# Altium footprint library Udemy_Library.PcbLib: 35 footprints (part 1 of 3)
Each footprint in its own frame and in the unit in brackets; x right, y up, seen from the top. Pads: shape width x height; smd on the part's side, far side on the other; paste and mask are expansions set on the pad; w line width, h text height; cw(c..) or ccw(c..) is an arc to the next point about the centre after c.
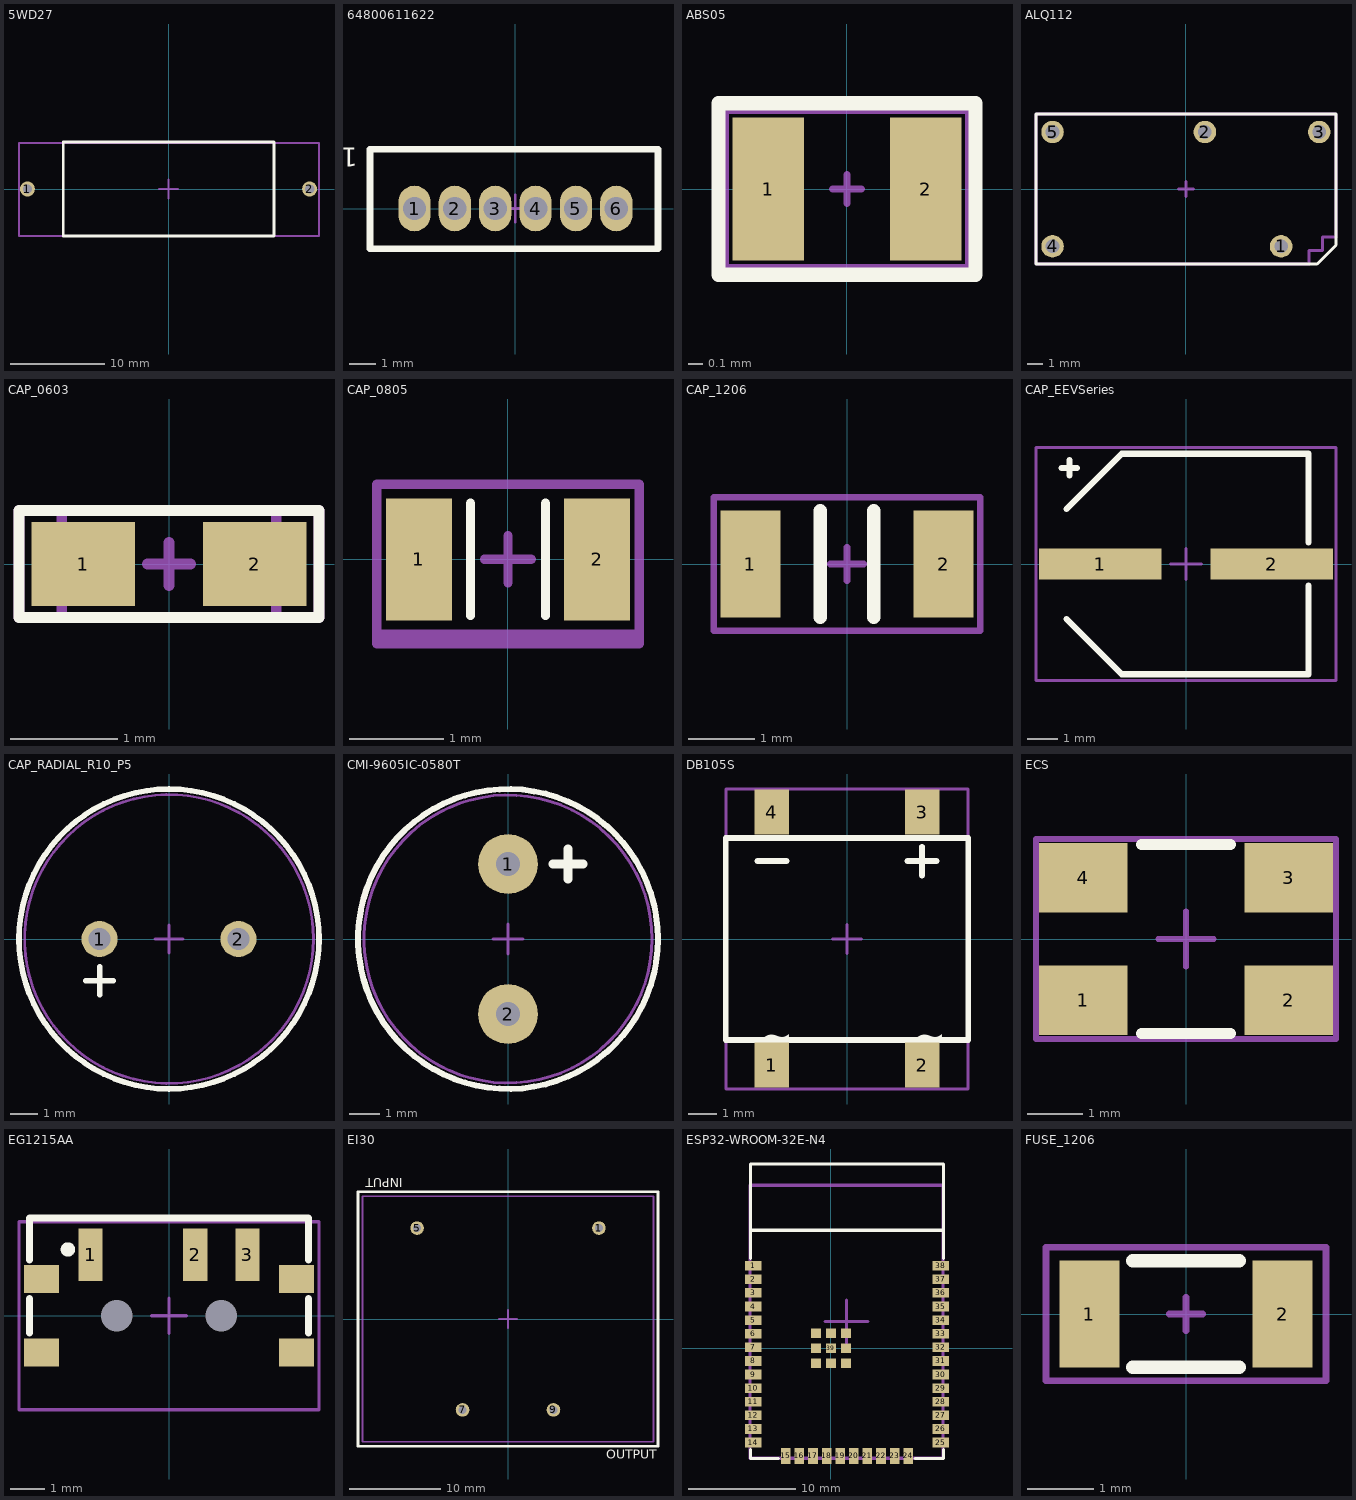
[diagram p0: the footprints below, top view; thin cyan lines are the x and y axes]

## 5WD27 [mm]
pads (2):
  round 1.6 hole 1 mask+0.05: 1(-15,0) 2(15,0)
Top Overlay:
  lines w0.3: -11.2,-5 -11.2,5 11.2,5 11.2,-5 -11.2,-5
Top Component Center:
  lines w0.2: -1,0 1,0 ; 0,-1 0,1 ; -15.9,-5 -15.9,4.9 -9.2,4.9 16,4.9 16,-5 -15.9,-5
Top Designator:
  lines w0.2: -15.9,-5 16,-5 16,4.9 -9.2,4.9 -15.9,4.9 -15.9,-5
  text ".Designator" at -2.55,-0.45 h1.2
3D body: height 5.2, standoff 4.4, extent 6.2,-0.4 15.2,0.4
3D body: height 5, standoff -4, extent 14.6,-0.4 15.4,0.4
3D body: height 5.2, standoff 4.4, extent -15.2,-0.4 -6.2,0.4
3D body: height 9.65, standoff 0, extent -11,-4.825 11,4.825
3D body: height 5, standoff -4, extent -15.4,-0.4 -14.6,0.4

## 64800611622 [mm]
pads (6):
  oval 1.2x1.7 hole 0.87 mask+0.05: 1(-3.75,0) 2(-2.25,0) 3(-0.75,0) 4(0.75,0) 5(2.25,0) 6(3.75,0)
Top Overlay:
  lines w0.25: -5.4,-1.5 -5.4,2.2 5.3,2.2 5.3,-1.5 -5.4,-1.5
  text "1" at -5.85,2.25 h0.7
Top Component Center:
  lines w0.1: -0.5,0 0.5,0 ; 0,-0.5 0,0.5 ; -5.4,-1.5 5.3,-1.5 5.3,2.2 -5.4,2.2 -5.4,-1.5
Top Designator:
  lines w0.1: -5.4,-1.5 5.3,-1.5 5.3,2.2 -5.4,2.2 -5.4,-1.5
  text ".Designator" at -1.4,1.267 h0.5
3D body "64800611622_rev1.stp": height 4.55, standoff -2.65, extent -5.25,-1.4 5.25,2.1

## ABS05 [mm]
pads (2):
  rect 0.5x1 smd mask+0.05: 1(-0.55,0) 2(0.55,0)
Top Overlay:
  lines w0.1: -0.9,-0.6 -0.9,0.6 0.9,0.6 0.9,-0.6 -0.9,-0.6
Top Component Center:
  lines w0.05: -0.1,0 0.1,0 ; 0,-0.1 0,0.1 ; -0.85,-0.55 0.85,-0.55 0.85,0.55 -0.85,0.55 -0.85,-0.55
Top Designator:
  lines w0.05: -0.85,-0.55 0.85,-0.55 0.85,0.55 -0.85,0.55 -0.85,-0.55
  text ".Designator" at -0.35,-0.083 h0.2
3D body "ABS05-32.768KHZ-T.step": height 0.5, standoff 0, extent -0.8,-0.5 0.8,0.5

## ALQ112 [mm]
pads (5):
  round 1.5 hole 0.9 mask+0.05: 1(6.35,-3.81) 2(1.27,3.81) 3(8.89,3.81) 4(-8.89,-3.81) 5(-8.89,3.81)
Top Overlay:
  lines w0.2: -9.99,-4.99 8.21,-4.99 8.76,-4.99 10.01,-3.74 10.01,-3.19 10.01,5.01 -9.99,5.01 -9.99,-4.99
Top Component Center:
  lines w0.2: -0.5,0 0.5,0 ; 0,-0.5 0,0.5 ; -9.99,-4.99 8.21,-4.99 8.21,-4.09 9.11,-4.09 9.11,-3.19 10.01,-3.19 10.01,5.01 -9.99,5.01 -9.99,-4.99
Top Designator:
  lines w0.2: -9.99,-4.99 8.21,-4.99 8.21,-4.09 9.11,-4.09 9.11,-3.19 10.01,-3.19 10.01,5.01 -9.99,5.01 -9.99,-4.99
  text ".Designator" at -2.8,-0.367 h1
3D body: height 4.2, standoff -3.75, extent 6.2,-4.21 6.5,-3.41
3D body: height 4.2, standoff -3.75, extent 8.74,3.41 9.04,4.21
3D body: height 4.2, standoff -3.75, extent 1.12,3.41 1.42,4.21
3D body: height 0.45, standoff -3.75, extent -9.29,-4.21 -8.49,-3.41
3D body: height 0.45, standoff -3.75, extent -9.29,3.41 -8.49,4.21
3D body: height 15.6, standoff 0.4, extent -10,-5 10,5

## CAP_0603 [mil]
pads (2):
  rect 38x31 smd mask+1.97: 1(-31.5,0) 2(31.5,0)
Top Overlay:
  lines w3.94: -55.12,-19.68 -55.12,19.68 55.12,19.68 55.12,-19.68 -55.12,-19.68
Top 3D Body:
  lines w3.94: -39.37,-19.68 39.37,-19.68 39.37,19.68 -39.37,19.68 -39.37,-19.68
Top Component Center:
  lines w3.94: -7.87,0 7.87,0 ; 0,-7.87 0,7.87 ; -55.12,-19.68 -55.12,19.68 55.12,19.68 55.12,-19.68 -55.12,-19.68
Top Designator:
  lines w3.94: -55.12,-19.68 -55.12,19.68 55.12,19.68 55.12,-19.68 -55.12,-19.68
  text ".Designator" at -31.5,-6.56 h15.75
3D body "CAPC0603.STEP": height 31.5, standoff 0, extent -41.35,-20.82 41.35,19.68

## CAP_0805 [mm]
pads (2):
  rect 0.7x1.3 smd mask+0.05: 1(-0.95,0) 2(0.95,0)
Top Overlay:
  lines w0.1: -0.4,-0.6 -0.4,0.6 ; 0.4,-0.6 0.4,0.6
Top Component Center:
  lines w0.1: -0.25,0 0.25,0 ; 0,-0.25 0,0.25 ; -1.4,-0.9 -1.4,0.8 1.4,0.8 1.4,-0.9 -1.4,-0.9
Top Designator:
  lines w0.1: -1.4,-0.8 1.4,-0.8 1.4,0.8 -1.4,0.8 -1.4,-0.8
  text ".Designator" at -0.85,-0.367 h0.7
3D body "CAPC0805.STEP": height 0.9, standoff 0, extent -1.301,-0.678 1.301,0.678

## CAP_1206 [mm]
pads (2):
  rect 0.9x1.6 smd mask+0.05: 1(-1.45,0) 2(1.45,0)
Top Overlay:
  lines w0.2: -0.4,-0.8 -0.4,0.8 ; 0.4,-0.8 0.4,0.8
Top Component Center:
  lines w0.1: -0.25,0 0.25,0 ; 0,-0.25 0,0.25 ; -2,-1 2,-1 2,1 -2,1 -2,-1
Top Designator:
  lines w0.1: -2,-1 2,-1 2,1 -2,1 -2,-1
  text ".Designator" at -0.65,-0.233 h0.5
3D body "CAPC1206.STEP": height 1.3, standoff -0.01, extent -1.975,-0.976 1.975,0.976

## CAP_EEVSeries [mm]
pads (2):
  rect 4x1 smd mask+0.05: 1(-2.8,0) 2(2.8,0)
Top Overlay:
  lines w0.2: -4.062,3.135 -3.562,3.135 ; -3.9,-1.8 -2.1,-3.6 4,-3.6 4,-0.7 ; -3.9,1.8 -2.1,3.6 4,3.6 4,0.7 ; -3.8,2.9 -3.8,3.4
Top Component Center:
  lines w0.1: -0.5,0 0.5,0 ; 0,-0.5 0,0.5 ; -4.9,-3.8 -4.9,3.8 4.9,3.8 4.9,-3.8 -4.9,-3.8
Top Designator:
  lines w0.1: -4.9,-3.8 4.9,-3.8 4.9,3.8 -4.9,3.8 -4.9,-3.8
  text ".Designator" at 0.467,-1.8 h1
3D body "EEV686M035A9HAA.step": height 8.01, standoff 0, extent -3.8,-3.4 3.8,3.4

## CAP_RADIAL_R10_P5 [mm]
pads (2):
  round 1.3 hole 0.8 mask+0.05: 1(-2.5,0) 2(2.5,0)
Top Overlay:
  circle w0.2: c0,0 r5.4
  lines w0.2: -3,-1.5 -2,-1.5 ; -2.5,-2 -2.5,-1
Top Component Center:
  circle w0.1: c0,0 r5.2
  lines w0.1: -0.5,0 0.5,0 ; 0,-0.5 0,0.5
Top Designator:
  circle w0.1: c0,0 r5.2
  text ".Designator" at 0.417,-2.05 h1
3D body "ESH477M050AH4AA.step": height 22.2, standoff -19.8, extent -5.25,-5.25 5.25,5.25

## CMI-9605IC-0580T [mm]
pads (2):
  round 2 hole 0.8 mask+0.05: 1(0,2.5) 2(0,-2.5)
Top Overlay:
  circle w0.2: c0,0 r5
  lines w0.3: 1.5,2.5 2.5,2.5 ; 2,2 2,3
Top Component Center:
  circle w0.1: c0,0 r4.8
  lines w0.1: -0.5,0 0.5,0 ; 0,-0.5 0,0.5
Top Designator:
  circle w0.1: c0,0 r4.8
  text ".Designator" at -1.8,-0.467 h1
3D body: height 5.2, standoff 5.15, extent -4.3,-4.3 4.3,4.3
3D body: height 0.1, standoff -3.9, extent -0.3,-2.8 0.3,-2.2
3D body: height 5.1, standoff 0.1, extent -4.8,-4.8 4.8,4.8
3D body: height 0.15, standoff -5.35, extent -0.3,2.2 0.3,2.8

## DB105S [mm]
pads (4):
  rect 1.2x1.55 smd mask+0.05: 1(-2.605,-4.37) 2(2.605,-4.37) 3(2.605,4.4) 4(-2.605,4.4)
Top Overlay:
  lines w0.2: -3.1,2.7 -2.1,2.7 ; 2.1,2.7 3.1,2.7 ; 2.6,2.2 2.6,3.2 ; -4.2,-3.5 4.2,-3.5 4.2,3.5 -4.2,3.5 -4.2,-3.5
  text "~" at -3,-3.833 h1
  text "~" at 2.3,-3.833 h1
Top Component Center:
  lines w0.1: -0.5,0 0.5,0 ; 0,-0.5 0,0.5 ; -4.2,-5.2 4.2,-5.2 4.2,5.2 -4.2,5.2 -4.2,-5.2
Top Designator:
  lines w0.1: -4.2,-5.2 4.2,-5.2 4.2,5.2 -4.2,5.2 -4.2,-5.2
  text ".Designator" at -2.3,-0.467 h1
3D body "DB107S  DB-S.step": height 2.66, standoff 0, extent -4.16,-5.2 4.16,5.2

## ECS [mm]
pads (4):
  rect 1.6x1.25 smd mask+0.05: 1(-1.85,-1.1) 2(1.85,-1.1) 3(1.85,1.1) 4(-1.85,1.1)
Top Overlay:
  lines w0.2: -0.8,-1.7 0.8,-1.7 ; -0.8,1.7 0.8,1.7
Top Component Center:
  lines w0.1: -0.5,0 0.5,0 ; 0,-0.5 0,0.5 ; -2.7,-1.8 2.7,-1.8 2.7,1.8 -2.7,1.8 -2.7,-1.8
Top Designator:
  lines w0.1: -2.7,-1.8 -2.7,1.8 2.7,1.8 2.7,-1.8 -2.7,-1.8
  text ".Designator" at -0.85,-0.317 h0.7
3D body "ECS-160-20-30B-TR.step": height 0.85, standoff 0, extent -2.5,-1.6 2.5,1.6

## EG1215AA [mm]
pads (9):
  rect 0.7x1.5 smd mask+0.05: 1(-2.25,1.75) 2(0.75,1.75) 3(2.25,1.75)
  rect 1x0.8 smd mask+0.05: ""(-3.65,-1.05) ""(-3.65,1.05) ""(3.65,-1.05) ""(3.65,1.05)
  round 0 hole 0.9 mask+0: ""(-1.5,0) ""(1.5,0)
Top Overlay:
  circle w0.21: c-2.9,1.9 r0.1
  lines w0.2: -4,-0.5 -4,0.5 ; -4,1.6 -4,2.8 4,2.8 4,1.6 ; 4,-0.5 4,0.5
Top Component Center:
  lines w0.1: -0.5,0 0.5,0 ; 0,-0.5 0,0.5 ; -4.3,-2.7 -4.3,2.7 4.3,2.7 4.3,-2.7 -4.3,-2.7
Top Designator:
  lines w0.1: -4.3,-2.7 -4.3,2.7 4.3,2.7 4.3,-2.7 -4.3,-2.7
  text ".Designator" at 0.05,-1.8 h0.75
3D body "EG1215AA.step": height 1.4, standoff -0.3, extent -3.85,-2.7 3.85,2.2

## EI30 [mm]
pads (4):
  round 1.5 hole 0.9 mask+0.05: 1(10,10) 5(-10,10) 7(-5,-10) 9(5,-10)
Top Overlay:
  lines w0.3: -16.5,-14 16.5,-14 16.5,14 -16.5,14 -16.5,-14
  text "OUTPUT" at 10.8,-15.4 h1
  text "INPUT" at -11.6,15.5 h1
Top Component Center:
  lines w0.2: -1,0 1,0 ; 0,-1 0,1 ; -16,-13.5 -16,13.5 16,13.5 16,-13.5 -16,-13.5
Top Designator:
  lines w0.2: -16,-13.5 16,-13.5 16,13.5 -16,13.5 -16,-13.5
  text ".Designator" at -2.7,-0.2 h1.5
3D body "EI30.step": height 24.02, standoff -2.99, extent -16,-13.5 16,13.5

## ESP32-WROOM-32E-N4 [mm]
pads (47):
  rect 1.5x0.9 smd mask+0.05: 1(-7.25,7.72) 2(-7.25,6.45) 3(-7.25,5.18) 4(-7.25,3.91) 5(-7.25,2.64) 6(-7.25,1.37) 7(-7.25,0.1) 8(-7.25,-1.17) 9(-7.25,-2.44) 10(-7.25,-3.71) 11(-7.25,-4.98) 12(-7.25,-6.25) 13(-7.25,-7.52) 14(-7.25,-8.79) 25(10.25,-8.79) 26(10.25,-7.52) 27(10.25,-6.25) 28(10.25,-4.98) 29(10.25,-3.71) 30(10.25,-2.44) 31(10.25,-1.17) 32(10.25,0.1) 33(10.25,1.37) 34(10.25,2.64) 35(10.25,3.91) 36(10.25,5.18) 37(10.25,6.45) 38(10.25,7.72)
  rect 0.9x1.5 smd mask+0.05: 15(-4.215,-10.04) 16(-2.945,-10.04) 17(-1.675,-10.04) 18(-0.405,-10.04) 19(0.865,-10.04) 20(2.135,-10.04) 21(3.405,-10.04) 22(4.675,-10.04) 23(5.945,-10.04) 24(7.215,-10.04)
  rect 0.9x0.9 smd mask+0.05: 39(0,0) ""(-1.4,-1.4) ""(-1.4,0) ""(-1.4,1.4) ""(0,-1.4) ""(0,1.4) ""(1.4,-1.4) ""(1.4,0) ""(1.4,1.4)
Top Overlay:
  lines w0.3: -7.5,-9.45 -7.5,-10.27 -4.9,-10.27 ; -7.5,8.38 -7.5,17.21 10.5,17.21 10.5,8.38 ; -7.5,11.02 10.5,11.02 ; 7.87,-10.29 10.5,-10.29 10.5,-9.45
Top 3D Body:
  lines w0.3: -7.56,-10.24 -7.56,15.26 10.45,15.26 10.45,-10.24 -7.56,-10.24
Top Component Center:
  lines w0.3: -0.545,2.5 3.455,2.5 ; 1.455,0.5 1.455,4.5 ; -7.55,-10.25 -7.55,15.25 10.46,15.25 10.46,-10.25 -7.55,-10.25
Top Designator:
  lines w0.3: -7.545,-10.27 10.465,-10.27 10.465,15.23 -7.545,15.23 -7.545,-10.27
  text ".Designator" at -2.09,2.946 h2
3D body "ESP32-WROOM-32E-N4.STEP": height 3.25, standoff 0, extent -7.52,-10.25 10.48,15.25

## FUSE_1206 [mm]
pads (2):
  rect 0.9x1.6 smd mask+0.05: 1(-1.45,0) 2(1.45,0)
Top Overlay:
  lines w0.2: -0.8,-0.8 0.8,-0.8 ; -0.8,0.8 0.8,0.8
Top Component Center:
  lines w0.1: -0.25,0 0.25,0 ; 0,-0.25 0,0.25 ; -2.1,-1 2.1,-1 2.1,1 -2.1,1 -2.1,-1
Top Designator:
  lines w0.1: -2.1,-1 -2.1,1 2.1,1 2.1,-1 -2.1,-1
  text ".Designator" at -1.05,-0.283 h0.8
3D body "3413.0216.22.step": height 0.6, standoff 0, extent -1.6,-0.8 1.6,0.8